# Altium schematic symbol library Trans CT.Schlib: 1 symbol
Pins are listed as number, name and electrical type; pins without a type are passive.

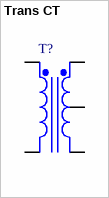
[diagram p0: symbol Trans CT]

## Trans CT
designator T?
Center-Tapped Transformer (Coupled Inductor Model)
pins: 1 Pri+, 2 Pri-, 3 Sec+, 4 SecCT, 5 Sec-